# Altium footprint library Connector_PinHeader_1.27mm.PcbLib: 278 footprints (part 18 of 18)
Each footprint in its own frame and in the unit in brackets; x right, y up, seen from the top. Pads: shape width x height; smd on the part's side, far side on the other; paste and mask are expansions set on the pad; w line width, h text height; cw(c..) or ccw(c..) is an arc to the next point about the centre after c.
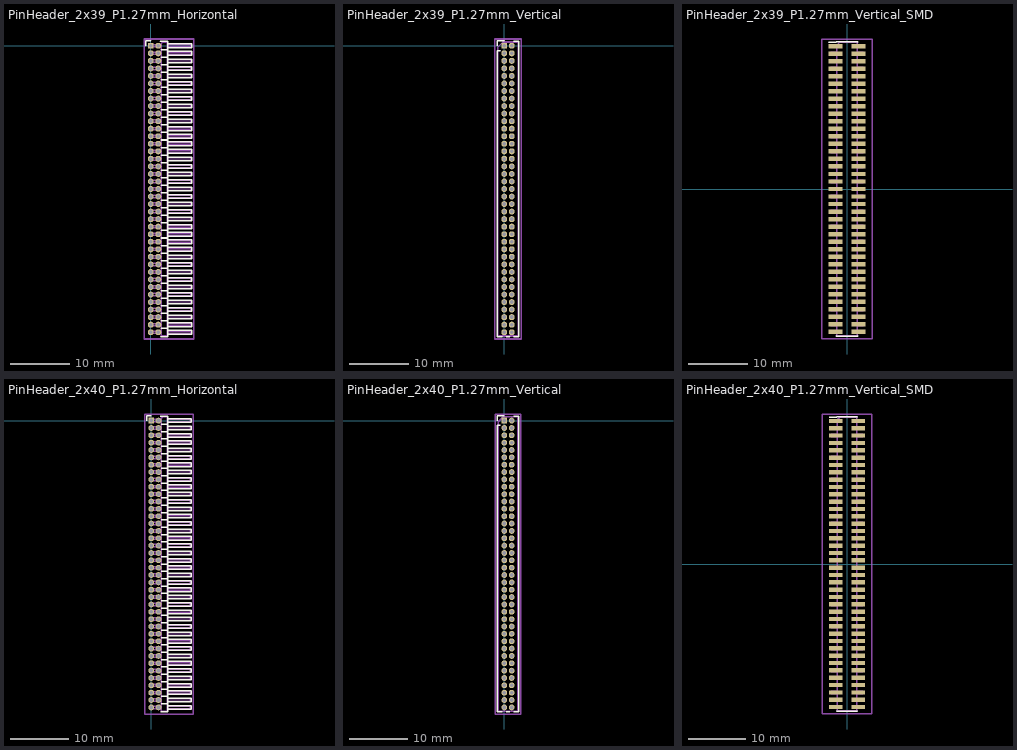
[diagram p17: the footprints below, top view; thin cyan lines are the x and y axes]

## PinHeader_2x39_P1.27mm_Horizontal [mm]
pads (78):
  rect 1x1 hole 0.65: 1(0,0)
  round 1 hole 0.65: 2(1.27,0) 3(0,-1.27) 4(1.27,-1.27) 5(0,-2.54) 6(1.27,-2.54) 7(0,-3.81) 8(1.27,-3.81) 9(0,-5.08) 10(1.27,-5.08) 11(0,-6.35) 12(1.27,-6.35) 13(0,-7.62) 14(1.27,-7.62) 15(0,-8.89) 16(1.27,-8.89) 17(0,-10.16) 18(1.27,-10.16) 19(0,-11.43) 20(1.27,-11.43) 21(0,-12.7) 22(1.27,-12.7) 23(0,-13.97) 24(1.27,-13.97) 25(0,-15.24) 26(1.27,-15.24) 27(0,-16.51) 28(1.27,-16.51) 29(0,-17.78) 30(1.27,-17.78) 31(0,-19.05) 32(1.27,-19.05) 33(0,-20.32) 34(1.27,-20.32) 35(0,-21.59) 36(1.27,-21.59) 37(0,-22.86) 38(1.27,-22.86) 39(0,-24.13) 40(1.27,-24.13) 41(0,-25.4) 42(1.27,-25.4) 43(0,-26.67) 44(1.27,-26.67) 45(0,-27.94) 46(1.27,-27.94) 47(0,-29.21) 48(1.27,-29.21) 49(0,-30.48) 50(1.27,-30.48) 51(0,-31.75) 52(1.27,-31.75) 53(0,-33.02) 54(1.27,-33.02) 55(0,-34.29) 56(1.27,-34.29) 57(0,-35.56) 58(1.27,-35.56) 59(0,-36.83) 60(1.27,-36.83) 61(0,-38.1) 62(1.27,-38.1) 63(0,-39.37) 64(1.27,-39.37) 65(0,-40.64) 66(1.27,-40.64) 67(0,-41.91) 68(1.27,-41.91) 69(0,-43.18) 70(1.27,-43.18) 71(0,-44.45) 72(1.27,-44.45) 73(0,-45.72) 74(1.27,-45.72) 75(0,-46.99) 76(1.27,-46.99) 77(0,-48.26) 78(1.27,-48.26)
F.SilkS:
  drawing of 161 lines, arcs and shapes, not listed
Top Assembly:
  drawing of 239 lines, arcs and shapes, not listed
  text "'.Designator'" at 2.774,-26.558 h0.6
Top Courtyard:
  lines w0.254: -1.14,-49.4 7.28,-49.4 7.28,1.14 -1.14,1.14 -1.14,-49.4
Top Designator:
  text ".Designator" at -4.548,-24.638 h1.52

## PinHeader_2x39_P1.27mm_Vertical [mm]
pads (78):
  rect 1x1 hole 0.65: 1(0,0)
  round 1 hole 0.65: 2(1.27,0) 3(0,-1.27) 4(1.27,-1.27) 5(0,-2.54) 6(1.27,-2.54) 7(0,-3.81) 8(1.27,-3.81) 9(0,-5.08) 10(1.27,-5.08) 11(0,-6.35) 12(1.27,-6.35) 13(0,-7.62) 14(1.27,-7.62) 15(0,-8.89) 16(1.27,-8.89) 17(0,-10.16) 18(1.27,-10.16) 19(0,-11.43) 20(1.27,-11.43) 21(0,-12.7) 22(1.27,-12.7) 23(0,-13.97) 24(1.27,-13.97) 25(0,-15.24) 26(1.27,-15.24) 27(0,-16.51) 28(1.27,-16.51) 29(0,-17.78) 30(1.27,-17.78) 31(0,-19.05) 32(1.27,-19.05) 33(0,-20.32) 34(1.27,-20.32) 35(0,-21.59) 36(1.27,-21.59) 37(0,-22.86) 38(1.27,-22.86) 39(0,-24.13) 40(1.27,-24.13) 41(0,-25.4) 42(1.27,-25.4) 43(0,-26.67) 44(1.27,-26.67) 45(0,-27.94) 46(1.27,-27.94) 47(0,-29.21) 48(1.27,-29.21) 49(0,-30.48) 50(1.27,-30.48) 51(0,-31.75) 52(1.27,-31.75) 53(0,-33.02) 54(1.27,-33.02) 55(0,-34.29) 56(1.27,-34.29) 57(0,-35.56) 58(1.27,-35.56) 59(0,-36.83) 60(1.27,-36.83) 61(0,-38.1) 62(1.27,-38.1) 63(0,-39.37) 64(1.27,-39.37) 65(0,-40.64) 66(1.27,-40.64) 67(0,-41.91) 68(1.27,-41.91) 69(0,-43.18) 70(1.27,-43.18) 71(0,-44.45) 72(1.27,-44.45) 73(0,-45.72) 74(1.27,-45.72) 75(0,-46.99) 76(1.27,-46.99) 77(0,-48.26) 78(1.27,-48.26)
F.SilkS:
  lines w0.254: -1.18,0 -1.18,0.81 0,0.81 ; -0.667,-0.81 -1.18,-0.81 -1.18,-49.005 -0.318,-49.005 ; 0.318,-49.005 0.952,-49.005 ; 1.588,-49.005 2.45,-49.005 2.45,0.745 1.588,0.745
Top Assembly:
  lines w0.254: -1.07,-48.895 2.34,-48.895 2.34,0.635 -0.218,0.635 -1.07,-0.218 -1.07,-48.895
  text "'.Designator'" at 1.475,-28.177 h1
Top Courtyard:
  lines w0.254: -1.57,-49.4 2.84,-49.4 2.84,1.14 -1.57,1.14 -1.57,-49.4
Top Designator:
  text ".Designator" at -6.983,-24.638 h1.52

## PinHeader_2x39_P1.27mm_Vertical_SMD [mm]
pads (78):
  rect 2.4x0.74 smd: 1(-1.95,24.13) 2(1.95,24.13) 3(-1.95,22.86) 4(1.95,22.86) 5(-1.95,21.59) 6(1.95,21.59) 7(-1.95,20.32) 8(1.95,20.32) 9(-1.95,19.05) 10(1.95,19.05) 11(-1.95,17.78) 12(1.95,17.78) 13(-1.95,16.51) 14(1.95,16.51) 15(-1.95,15.24) 16(1.95,15.24) 17(-1.95,13.97) 18(1.95,13.97) 19(-1.95,12.7) 20(1.95,12.7) 21(-1.95,11.43) 22(1.95,11.43) 23(-1.95,10.16) 24(1.95,10.16) 25(-1.95,8.89) 26(1.95,8.89) 27(-1.95,7.62) 28(1.95,7.62) 29(-1.95,6.35) 30(1.95,6.35) 31(-1.95,5.08) 32(1.95,5.08) 33(-1.95,3.81) 34(1.95,3.81) 35(-1.95,2.54) 36(1.95,2.54) 37(-1.95,1.27) 38(1.95,1.27) 39(-1.95,0) 40(1.95,0) 41(-1.95,-1.27) 42(1.95,-1.27) 43(-1.95,-2.54) 44(1.95,-2.54) 45(-1.95,-3.81) 46(1.95,-3.81) 47(-1.95,-5.08) 48(1.95,-5.08) 49(-1.95,-6.35) 50(1.95,-6.35) 51(-1.95,-7.62) 52(1.95,-7.62) 53(-1.95,-8.89) 54(1.95,-8.89) 55(-1.95,-10.16) 56(1.95,-10.16) 57(-1.95,-11.43) 58(1.95,-11.43) 59(-1.95,-12.7) 60(1.95,-12.7) 61(-1.95,-13.97) 62(1.95,-13.97) 63(-1.95,-15.24) 64(1.95,-15.24) 65(-1.95,-16.51) 66(1.95,-16.51) 67(-1.95,-17.78) 68(1.95,-17.78) 69(-1.95,-19.05) 70(1.95,-19.05) 71(-1.95,-20.32) 72(1.95,-20.32) 73(-1.95,-21.59) 74(1.95,-21.59) 75(-1.95,-22.86) 76(1.95,-22.86) 77(-1.95,-24.13) 78(1.95,-24.13)
F.SilkS:
  lines w0.254: -3.09,24.81 -1.815,24.81 -1.815,24.875 1.815,24.875 1.815,24.81 ; -1.815,-24.81 -1.815,-24.875 1.815,-24.875 1.815,-24.81
Top Assembly:
  drawing of 239 lines, arcs and shapes, not listed
  text "'.Designator'" at 0.84,-4.047 h1
Top Courtyard:
  lines w0.254: -4.29,-25.27 4.29,-25.27 4.29,25.27 -4.29,25.27 -4.29,-25.27
Top Designator:
  text ".Designator" at -7.618,-0.508 h1.52

## PinHeader_2x40_P1.27mm_Horizontal [mm]
pads (80):
  rect 1x1 hole 0.65: 1(0,0)
  round 1 hole 0.65: 2(1.27,0) 3(0,-1.27) 4(1.27,-1.27) 5(0,-2.54) 6(1.27,-2.54) 7(0,-3.81) 8(1.27,-3.81) 9(0,-5.08) 10(1.27,-5.08) 11(0,-6.35) 12(1.27,-6.35) 13(0,-7.62) 14(1.27,-7.62) 15(0,-8.89) 16(1.27,-8.89) 17(0,-10.16) 18(1.27,-10.16) 19(0,-11.43) 20(1.27,-11.43) 21(0,-12.7) 22(1.27,-12.7) 23(0,-13.97) 24(1.27,-13.97) 25(0,-15.24) 26(1.27,-15.24) 27(0,-16.51) 28(1.27,-16.51) 29(0,-17.78) 30(1.27,-17.78) 31(0,-19.05) 32(1.27,-19.05) 33(0,-20.32) 34(1.27,-20.32) 35(0,-21.59) 36(1.27,-21.59) 37(0,-22.86) 38(1.27,-22.86) 39(0,-24.13) 40(1.27,-24.13) 41(0,-25.4) 42(1.27,-25.4) 43(0,-26.67) 44(1.27,-26.67) 45(0,-27.94) 46(1.27,-27.94) 47(0,-29.21) 48(1.27,-29.21) 49(0,-30.48) 50(1.27,-30.48) 51(0,-31.75) 52(1.27,-31.75) 53(0,-33.02) 54(1.27,-33.02) 55(0,-34.29) 56(1.27,-34.29) 57(0,-35.56) 58(1.27,-35.56) 59(0,-36.83) 60(1.27,-36.83) 61(0,-38.1) 62(1.27,-38.1) 63(0,-39.37) 64(1.27,-39.37) 65(0,-40.64) 66(1.27,-40.64) 67(0,-41.91) 68(1.27,-41.91) 69(0,-43.18) 70(1.27,-43.18) 71(0,-44.45) 72(1.27,-44.45) 73(0,-45.72) 74(1.27,-45.72) 75(0,-46.99) 76(1.27,-46.99) 77(0,-48.26) 78(1.27,-48.26) 79(0,-49.53) 80(1.27,-49.53)
F.SilkS:
  drawing of 165 lines, arcs and shapes, not listed
Top Assembly:
  drawing of 245 lines, arcs and shapes, not listed
  text "'.Designator'" at 2.774,-27.193 h0.6
Top Courtyard:
  lines w0.254: -1.14,-50.67 7.28,-50.67 7.28,1.14 -1.14,1.14 -1.14,-50.67
Top Designator:
  text ".Designator" at -4.548,-25.273 h1.52

## PinHeader_2x40_P1.27mm_Vertical [mm]
pads (80):
  rect 1x1 hole 0.65: 1(0,0)
  round 1 hole 0.65: 2(1.27,0) 3(0,-1.27) 4(1.27,-1.27) 5(0,-2.54) 6(1.27,-2.54) 7(0,-3.81) 8(1.27,-3.81) 9(0,-5.08) 10(1.27,-5.08) 11(0,-6.35) 12(1.27,-6.35) 13(0,-7.62) 14(1.27,-7.62) 15(0,-8.89) 16(1.27,-8.89) 17(0,-10.16) 18(1.27,-10.16) 19(0,-11.43) 20(1.27,-11.43) 21(0,-12.7) 22(1.27,-12.7) 23(0,-13.97) 24(1.27,-13.97) 25(0,-15.24) 26(1.27,-15.24) 27(0,-16.51) 28(1.27,-16.51) 29(0,-17.78) 30(1.27,-17.78) 31(0,-19.05) 32(1.27,-19.05) 33(0,-20.32) 34(1.27,-20.32) 35(0,-21.59) 36(1.27,-21.59) 37(0,-22.86) 38(1.27,-22.86) 39(0,-24.13) 40(1.27,-24.13) 41(0,-25.4) 42(1.27,-25.4) 43(0,-26.67) 44(1.27,-26.67) 45(0,-27.94) 46(1.27,-27.94) 47(0,-29.21) 48(1.27,-29.21) 49(0,-30.48) 50(1.27,-30.48) 51(0,-31.75) 52(1.27,-31.75) 53(0,-33.02) 54(1.27,-33.02) 55(0,-34.29) 56(1.27,-34.29) 57(0,-35.56) 58(1.27,-35.56) 59(0,-36.83) 60(1.27,-36.83) 61(0,-38.1) 62(1.27,-38.1) 63(0,-39.37) 64(1.27,-39.37) 65(0,-40.64) 66(1.27,-40.64) 67(0,-41.91) 68(1.27,-41.91) 69(0,-43.18) 70(1.27,-43.18) 71(0,-44.45) 72(1.27,-44.45) 73(0,-45.72) 74(1.27,-45.72) 75(0,-46.99) 76(1.27,-46.99) 77(0,-48.26) 78(1.27,-48.26) 79(0,-49.53) 80(1.27,-49.53)
F.SilkS:
  lines w0.254: -1.18,0 -1.18,0.81 0,0.81 ; -0.667,-0.81 -1.18,-0.81 -1.18,-50.275 -0.318,-50.275 ; 0.318,-50.275 0.952,-50.275 ; 1.588,-50.275 2.45,-50.275 2.45,0.745 1.588,0.745
Top Assembly:
  lines w0.254: -1.07,-50.165 2.34,-50.165 2.34,0.635 -0.218,0.635 -1.07,-0.218 -1.07,-50.165
  text "'.Designator'" at 1.475,-28.812 h1
Top Courtyard:
  lines w0.254: -1.57,-50.67 2.84,-50.67 2.84,1.14 -1.57,1.14 -1.57,-50.67
Top Designator:
  text ".Designator" at -6.983,-25.273 h1.52

## PinHeader_2x40_P1.27mm_Vertical_SMD [mm]
pads (80):
  rect 2.4x0.74 smd: 1(-1.95,24.765) 2(1.95,24.765) 3(-1.95,23.495) 4(1.95,23.495) 5(-1.95,22.225) 6(1.95,22.225) 7(-1.95,20.955) 8(1.95,20.955) 9(-1.95,19.685) 10(1.95,19.685) 11(-1.95,18.415) 12(1.95,18.415) 13(-1.95,17.145) 14(1.95,17.145) 15(-1.95,15.875) 16(1.95,15.875) 17(-1.95,14.605) 18(1.95,14.605) 19(-1.95,13.335) 20(1.95,13.335) 21(-1.95,12.065) 22(1.95,12.065) 23(-1.95,10.795) 24(1.95,10.795) 25(-1.95,9.525) 26(1.95,9.525) 27(-1.95,8.255) 28(1.95,8.255) 29(-1.95,6.985) 30(1.95,6.985) 31(-1.95,5.715) 32(1.95,5.715) 33(-1.95,4.445) 34(1.95,4.445) 35(-1.95,3.175) 36(1.95,3.175) 37(-1.95,1.905) 38(1.95,1.905) 39(-1.95,0.635) 40(1.95,0.635) 41(-1.95,-0.635) 42(1.95,-0.635) 43(-1.95,-1.905) 44(1.95,-1.905) 45(-1.95,-3.175) 46(1.95,-3.175) 47(-1.95,-4.445) 48(1.95,-4.445) 49(-1.95,-5.715) 50(1.95,-5.715) 51(-1.95,-6.985) 52(1.95,-6.985) 53(-1.95,-8.255) 54(1.95,-8.255) 55(-1.95,-9.525) 56(1.95,-9.525) 57(-1.95,-10.795) 58(1.95,-10.795) 59(-1.95,-12.065) 60(1.95,-12.065) 61(-1.95,-13.335) 62(1.95,-13.335) 63(-1.95,-14.605) 64(1.95,-14.605) 65(-1.95,-15.875) 66(1.95,-15.875) 67(-1.95,-17.145) 68(1.95,-17.145) 69(-1.95,-18.415) 70(1.95,-18.415) 71(-1.95,-19.685) 72(1.95,-19.685) 73(-1.95,-20.955) 74(1.95,-20.955) 75(-1.95,-22.225) 76(1.95,-22.225) 77(-1.95,-23.495) 78(1.95,-23.495) 79(-1.95,-24.765) 80(1.95,-24.765)
F.SilkS:
  lines w0.254: -3.09,25.445 -1.815,25.445 -1.815,25.51 1.815,25.51 1.815,25.445 ; -1.815,-25.445 -1.815,-25.51 1.815,-25.51 1.815,-25.445
Top Assembly:
  drawing of 245 lines, arcs and shapes, not listed
  text "'.Designator'" at 0.84,-4.047 h1
Top Courtyard:
  lines w0.254: -4.29,-25.9 4.29,-25.9 4.29,25.9 -4.29,25.9 -4.29,-25.9
Top Designator:
  text ".Designator" at -7.618,-0.508 h1.52